# EAGLE library part SFW30S-2STE1LF (library FCI-tkr)
FFC/FPC CONNECTOR, RECEPTACLE 30 POS 1ROW
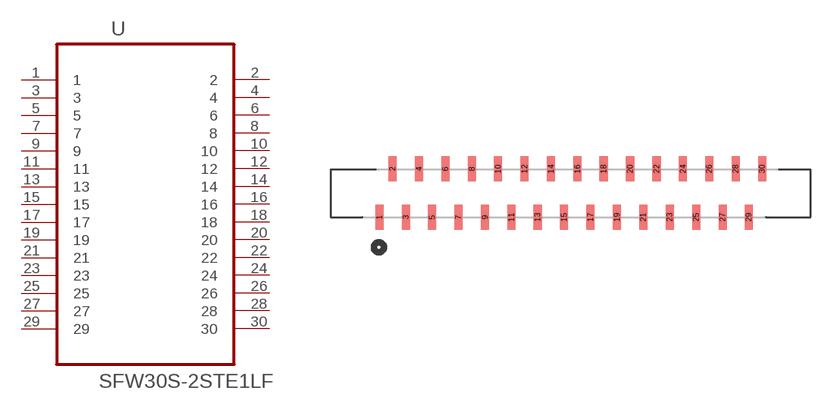
[diagram p74: symbol with the pads of FCI_SFW30S-2STE1LF; footprint FCI_SFW30S-2STE1LF]

Designator prefix U

## SFW30S-2STE1LF (MPN: SFW30S-2STE1LF; OC_FARNELL: 1632213; OC_NEWARK: 62K5633; PACKAGE: CONNECTOR-30POS; SUPPLIER: FCI)  [FCI_SFW30S-2STE1LF]
1  1  pas
2  2  pas
3  3  pas
4  4  pas
5  5  pas
6  6  pas
7  7  pas
8  8  pas
9  9  pas
10  10  pas
11  11  pas
12  12  pas
13  13  pas
14  14  pas
15  15  pas
16  16  pas
17  17  pas
18  18  pas
19  19  pas
20  20  pas
21  21  pas
22  22  pas
23  23  pas
24  24  pas
25  25  pas
26  26  pas
27  27  pas
28  28  pas
29  29  pas
30  30  pas

## Footprint FCI_SFW30S-2STE1LF (pad centres in mm)
smd 0.61 x 1.905: 1 0,0; 2 0.991,3.658; 3 2.007,0; 4 2.997,3.658; 5 3.988,0; 6 5.004,3.658; 7 5.994,0; 8 7.01,3.658; 9 8.001,0; 10 8.992,3.658; 11 10.008,0; 12 10.998,3.658; 13 11.989,0; 14 13.005,3.658; 15 13.995,0; 16 15.011,3.658; 17 16.002,0; 18 16.993,3.658; 19 18.009,0; 20 18.999,3.658; 21 19.99,0; 22 21.006,3.658; 23 21.996,0; 24 23.012,3.658; 25 24.003,0; 26 24.994,3.658; 27 26.01,0; 28 27,3.658; 29 27.991,0; 30 29.007,3.658